# EAGLE library part FTR-B4 (library relay)
Fujitsu FTR-B4 Series Ultra Miniature 2-Poles 2A (SLIM PROFILE SIGNAL RELAY)
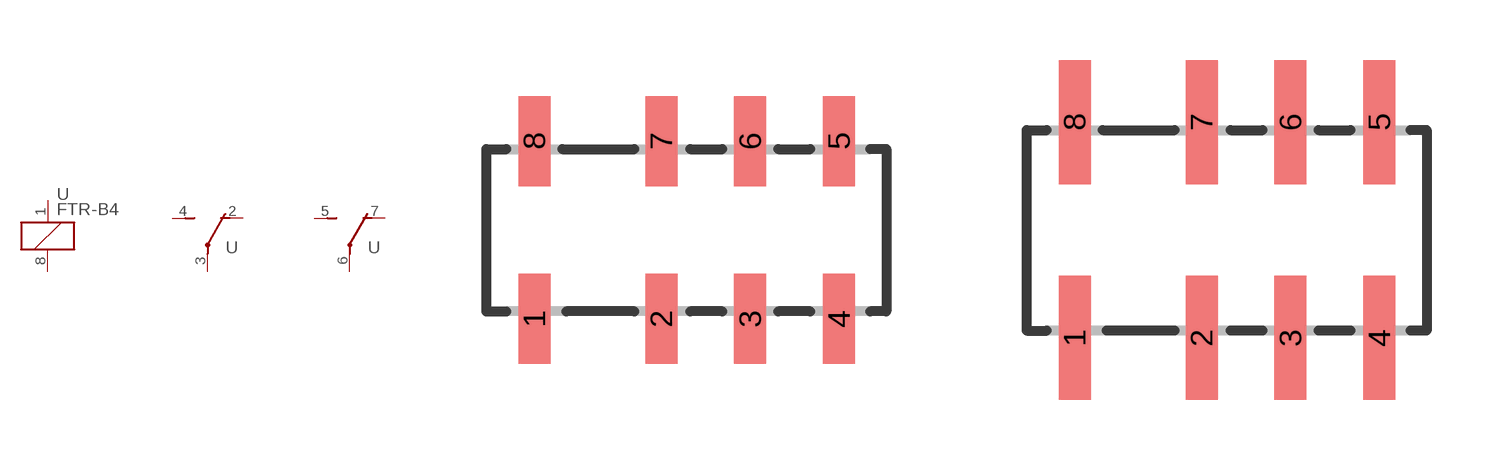
[diagram p152: symbol with the pads of FTR-B4SA; footprints FTR-B4SA, FTR-B4GA]

Designator prefix -; gates G$1=K G$2=U G$3=U

## FTR-B4SA (MF: Fujitsu; MPN: FTR-B4SAxxxZ)  [FTR-B4SA]
1  G$1:1  pas
2  G$2:O  pas
3  G$2:P  pas
4  G$2:S  pas
5  G$3:S  pas
6  G$3:P  pas
7  G$3:O  pas
8  G$1:2  pas

## FTR-B4GA (MN: Fujitsu; MPN: FTR-B4GAxxxZ; OC_REICHELT: FTR-B4GA 12V)  [FTR-B4GA]
Pads as for FTR-B4SA

## Footprint FTR-B4SA (pad centres in mm)
smd 0.8 x 2.25: 1 -3.8,-0.945; 2 -0.625,-0.945; 3 1.597,-0.945; 4 3.82,-0.945; 5 3.82,3.5; 6 1.597,3.5; 7 -0.625,3.5; 8 -3.8,3.5

## Footprint FTR-B4GA (pad centres in mm)
smd 0.8 x 3.1: 1 -3.8,-3.167; 2 -0.625,-3.167; 3 1.597,-3.167; 4 3.82,-3.167; 5 3.82,2.23; 6 1.597,2.23; 7 -0.625,2.23; 8 -3.8,2.23